# EAGLE library part MRF49XA (library Souers)
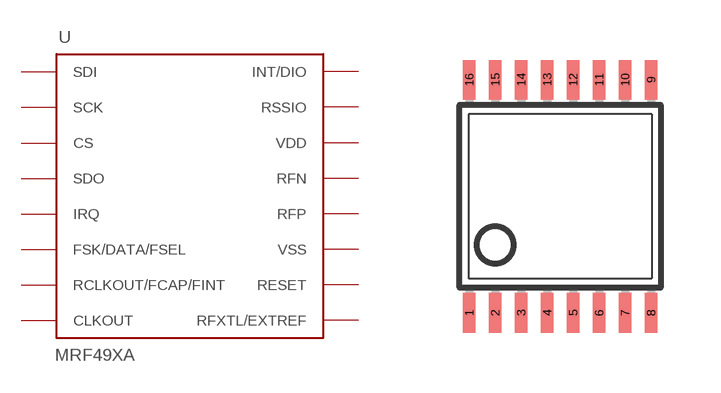
[diagram p2: symbol with the pads of TSSOP16; footprint TSSOP16]

Designator prefix -

## MRF49XA  [TSSOP16]
1  SDI
2  SCK
3  CS
4  SDO
5  IRQ
6  FSK/DATA/FSEL
7  RCLKOUT/FCAP/FINT
8  CLKOUT
9  RFXTL/EXTREF
10  RESET
11  VSS
12  RFP
13  RFN
14  VDD
15  RSSIO
16  INT/DIO

## Footprint TSSOP16 (pad centres in mm)
Thin Shrink Small Outline Plastic 16 MAX3223-MAX3243.pdf
smd 0.305 x 0.991: 1 -2.275,-2.918; 2 -1.625,-2.918; 3 -0.975,-2.918; 4 -0.325,-2.918; 5 0.325,-2.918; 6 0.975,-2.918; 7 1.625,-2.918; 8 2.275,-2.918; 9 2.275,2.918; 10 1.625,2.918; 11 0.975,2.918; 12 0.325,2.918; 13 -0.325,2.918; 14 -0.975,2.918; 15 -1.625,2.918; 16 -2.275,2.918